# Altium schematic symbol library CPH3205.Schlib: 1 symbol
Pins are listed as number, name and electrical type; pins without a type are passive.

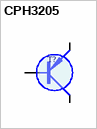
[diagram p0: symbol CPH3205]

## CPH3205
designator T?
SOT23     50V 3A 380MHz 13p(10V) (CPH3105)
pins: 1 B, 2 E (oe), 3 C (oc)
1 alternate drawing of the same symbol